# EAGLE library part LMZ23605 (library greg-IC)
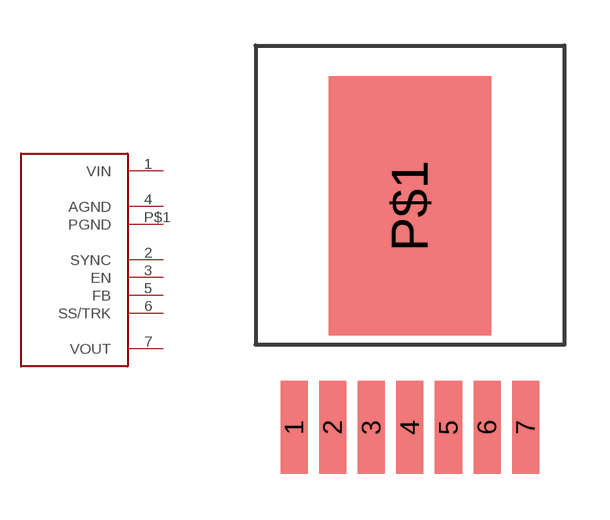
[diagram p6: symbol with the pads of TI-NDW-7; footprint TI-NDW-7]

Designator prefix -

## LMZ23605NDW  [TI-NDW-7]
1  VIN
2  SYNC
3  EN
4  AGND
5  FB
6  SS/TRK
7  VOUT
P$1  PGND

## Footprint TI-NDW-7 (pad centres in mm)
smd 0.89 x 3.06: 1 -3.81,-7.305; 2 -2.54,-7.305; 3 -1.27,-7.305; 4 0,-7.305; 5 1.27,-7.305; 6 2.54,-7.305; 7 3.81,-7.305
smd 5.35 x 8.54: P$1 0,0